# EAGLE library part PINHD-1X6 (library robocraft)
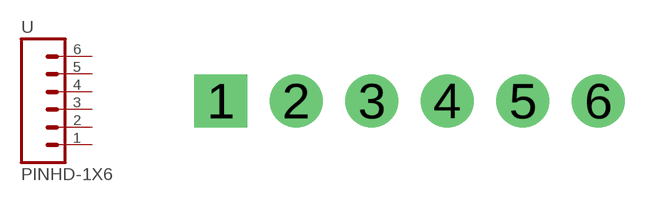
[diagram p3: symbol with the pads of 1X06-CLEAN; footprint 1X06-CLEAN]

Designator prefix -

## PINHD-1X6  [1X06-CLEAN]
1  1  pas
2  2  pas
3  3  pas
4  4  pas
5  5  pas
6  6  pas

## Footprint 1X06-CLEAN (pad centres in mm)
drill 1.016 pad 1.778 square: 1 0,0
drill 1.016 pad 1.778: 2 2.54,0; 3 5.08,0; 4 7.62,0; 5 10.16,0; 6 12.7,0